# Altium footprint library Resistor.PcbLib: 27 footprints (part 2 of 2)
Each footprint in its own frame and in the unit in brackets; x right, y up, seen from the top. Pads: shape width x height; smd on the part's side, far side on the other; paste and mask are expansions set on the pad; w line width, h text height; cw(c..) or ccw(c..) is an arc to the next point about the centre after c.
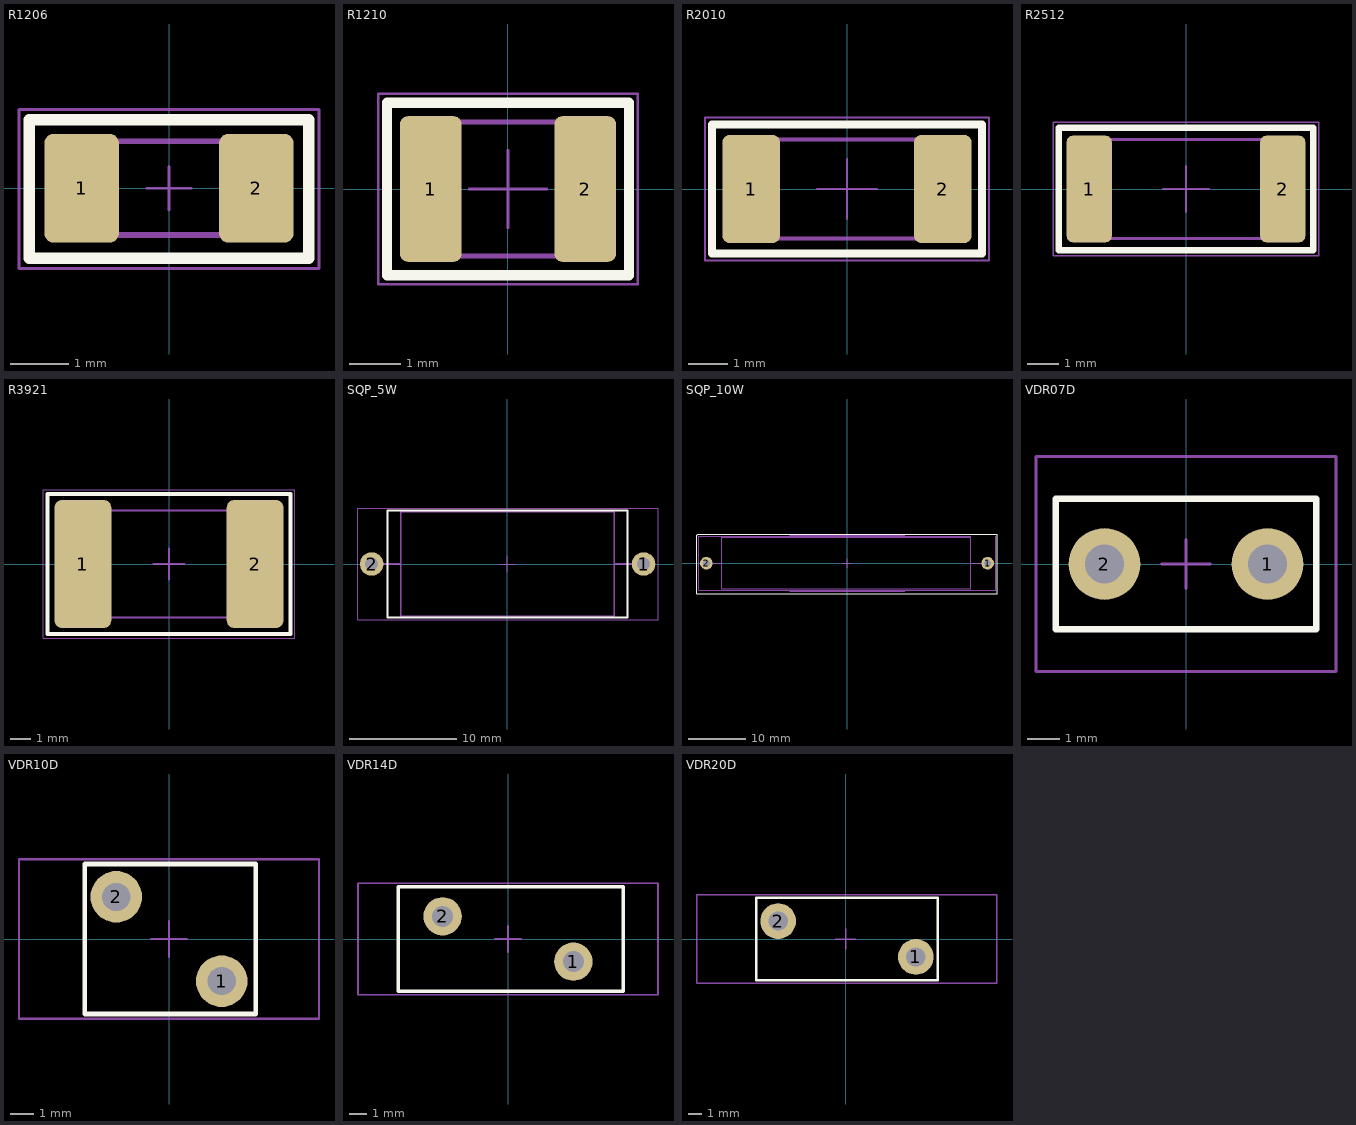
[diagram p1: the footprints below, top view; thin cyan lines are the x and y axes]

## R1206 [mm]
height 0.55
pads (2):
  rrect25% 1.28x1.87 smd: 1(-1.5,0) 2(1.5,0)
Top Overlay:
  lines w0.2: -2.4,-1.2 2.4,-1.2 2.4,1.175 -2.4,1.175 -2.4,-1.2
Mechanical 13:
  lines w0.1: -1.603,-0.8 1.597,-0.8 1.597,0.806 -1.603,0.804 -1.603,-0.8
Mechanical 15:
  lines w0.05: -0.375,0 0.375,0 ; 0,-0.375 0,0.375 ; -2.575,-1.375 -2.575,1.35 2.575,1.35 2.575,-1.375 -2.575,-1.375
3D body "User Library-res1206-1.step": height 0.55, standoff 0, extent -1.6,-0.8 1.6,0.8

## R1210 [mm] "1210 (3225 Metric), 3.10mm L x 2.60mm W"
height 0.6
pads (2):
  rrect25% 1.2x2.83 smd: 1(-1.5,0) 2(1.5,0)
Top Overlay:
  lines w0.2: -2.35,-1.675 2.35,-1.675 2.35,1.675 -2.35,1.675 -2.35,-1.675
Mechanical 13:
  lines w0.1: -1.55,-1.3 -1.55,1.3 1.55,1.3 1.55,-1.3 -1.55,-1.3
Mechanical 15:
  lines w0.05: -0.75,0 0.75,0 ; 0,-0.75 0,0.75 ; -2.525,-1.85 2.525,-1.85 2.525,1.85 -2.525,1.85 -2.525,-1.85
3D body "User Library-R1210.step": height 0.47, standoff 0, extent -1.55,-1.301 1.55,1.301

## R2010 [mm] "0.197\" L x 0.098\" W (5.00mm x 2.50mm)"
height 0.65
pads (2):
  rrect25% 1.45x2.73 smd: 1(-2.415,0) 2(2.415,0)
Top Overlay:
  lines w0.2: -3.4,-1.625 -3.4,1.625 3.4,1.625 3.4,-1.625 -3.4,-1.625
Mechanical 13:
  lines w0.1: -2.5,-1.25 2.5,-1.25 2.5,1.25 -2.5,1.25 -2.5,-1.25
Mechanical 15:
  lines w0.05: -0.75,0 0.75,0 ; 0,-0.75 0,0.75 ; -3.575,-1.8 3.575,-1.8 3.575,1.8 -3.575,1.8 -3.575,-1.8
3D body "User Library-R_2010.step": height 0.6, standoff 0, extent -2.5,-1.25 2.5,1.25

## R2512 [mm]
pads (2):
  rrect25% 1.45x3.43 smd: 1(-3.115,0) 2(3.115,0)
Top Overlay:
  lines w0.2: -4.1,-1.975 -4.1,1.975 4.1,1.975 4.1,-1.975 -4.1,-1.975
Mechanical 13:
  lines w0.1: -3.35,-1.6 3.35,-1.6 3.35,1.6 -3.35,1.6 -3.35,-1.6
Mechanical 15:
  lines w0.05: -0.75,0 0.75,0 ; 0,-0.75 0,0.75 ; -4.275,-2.15 -4.275,2.15 4.275,2.15 4.275,-2.15 -4.275,-2.15
3D body "User Library-R2512-1.step": height 0.55, standoff 0, extent -3.35,-1.6 3.35,1.6

## R3921 [mm]
pads (2):
  rrect25% 2.75x6.2 smd: 1(-4.175,0) 2(4.175,0)
Top Overlay:
  lines w0.2: -5.9,-3.4 -5.9,3.4 5.9,3.4 5.9,-3.4 -5.9,-3.4
Mechanical 9:
  text ".Designator" at -5.7,4.5 h3.5
Mechanical 10:
  text ".Comment" at -3.2,-5 h2
Mechanical 11:
  lines w0.1: -4.5,-2.6 4.5,-2.6 4.5,2.6 -4.5,2.6 -4.5,-2.6
Mechanical 15:
  lines w0.05: -6.1,-3.6 6.1,-3.6 6.1,3.6 -6.1,3.6 -6.1,-3.6
  lines w0.1: -0.75,0 0.75,0 ; 0,-0.75 0,0.75
3D body "User Library-WSL3921.step": height 0.83, standoff 0, extent -5,-2.6 5,2.6

## SQP_5W [mm]
pads (2):
  round 2.2 hole 1.2: 1(12.75,0)
  round 2.2 hole 1.2 mask+0.102: 2(-12.725,0)
Top Overlay:
  lines w0.2: -11.25,-5.025 -11.25,5.025 11.25,5.025 11.25,-5.025 -11.25,-5.025
Mechanical 9:
  text ".Designator" at -4.6,6.3 h3.5
Mechanical 10:
  text ".Comment" at -3.3,-6.9 h2
Mechanical 11:
  lines w0.15: -12.7,0 -10,0 ; 10,0 12.7,0 ; -10,-4.9 10,-4.9 10,4.9 -10,4.9 -10,-4.9
Mechanical 15:
  lines w0.1: -0.75,0 0.75,0 ; 0,-0.75 0,0.75 ; -14,-5.2 -14,3 -14,5.2 14.1,5.2 14.1,-5.2 -14,-5.2
3D body "User Library-SQP-5W.step": height 9.21, standoff -2.5, extent -13.2,-4.85 13.2,4.85

## SQP_10W [mm]
pads (2):
  round 2.2 hole 1.2: 1(24.475,0)
  round 2.2 hole 1.2 mask+0.102: 2(-24.5,0)
Top Overlay:
  lines w0.2: -26.125,-5.3 21.675,-5.3 26.1,-5.3 26.1,5.025 -26,5.025 -26.125,4.9 -26.125,-5.3
Mechanical 9:
  text ".Designator" at -4.6,6.3 h3.5
Mechanical 10:
  text ".Comment" at -3.3,-6.9 h2
Mechanical 11:
  lines w0.15: -24.525,0 -21.825,0 ; -10,-4.9 10,-4.9 ; -10,4.9 10,4.9 ; 21.5,0 24.2,0 ; -21.825,-4.475 -21.825,4.5 21.5,4.5 21.5,-4.475 -21.825,-4.475
Mechanical 15:
  lines w0.1: -0.75,0 0.75,0 ; 0,-0.75 0,0.75 ; 21.5,4.675 -25.85,4.675 -25.85,-4.7 -23.3,-4.7 25.9,-4.7 25.9,4.7
3D body "User Library-SQP10AJB-10R.STEP": height 10.55, standoff -4.04, extent -24.9,-4.5 24.9,4.5

## VDR07D [mm]
pads (2):
  round 2.2 hole 1.2: 1(2.5,0)
  round 2.2 hole 1.2 mask+0.102: 2(-2.5,0)
Top Overlay:
  lines w0.2: -4,-2 4,-2 4,2 -4,2 -4,-2
Mechanical 9:
  text ".Designator" at -6.3,4.1 h3.5
Mechanical 10:
  text ".Comment" at -3.2,-4.8 h2
Mechanical 15:
  lines w0.1: -0.75,0 0.75,0 ; 0,-0.75 0,0.75 ; -4.6,-3.3 4.6,-3.3 4.6,3.3 -4.6,3.3 -4.6,0.7 -4.6,-3.3
3D body "User Library-vdrs07bke.step": height 13, standoff -3, extent -4.5,-3.25 4.5,3.25

## VDR10D [mm]
pads (2):
  round 2.2 hole 1.2: 1(2.25,-1.8)
  round 2.2 hole 1.2 mask+0.102: 2(-2.25,1.8)
Top Overlay:
  lines w0.2: -3.6,-3.2 3.7,-3.2 3.7,3.2 -3.6,3.2 -3.6,-3.2
Mechanical 9:
  text ".Designator" at -6.3,4.1 h3.5
Mechanical 10:
  text ".Comment" at -3.2,-4.8 h2
Mechanical 15:
  lines w0.1: -0.75,0 0.75,0 ; 0,-0.75 0,0.75 ; -6.4,-3.4 6.4,-3.4 6.4,3.4 -6.4,3.4 -6.4,-3.4
3D body "User Library-Varistor 10mm.step": height 18.25, standoff -0.75, extent -6.25,-2.8 6.25,2.8

## VDR14D [mm]
pads (2):
  round 2.2 hole 1.2: 1(3.75,-1.3)
  round 2.2 hole 1.2 mask+0.102: 2(-3.75,1.3)
Top Overlay:
  lines w0.2: -6.3,-3 6.6,-3 6.6,3 -6.3,3 -6.3,-3
Mechanical 9:
  text ".Designator" at -6.3,4.1 h3.5
Mechanical 10:
  text ".Comment" at -3.2,-4.8 h2
Mechanical 15:
  lines w0.1: -0.75,0 0.75,0 ; 0,-0.75 0,0.75 ; -8.6,-3.2 -8.6,3.2 8.6,3.2 8.6,-3.2 -8.6,-3.2
3D body "User Library-Varistor 14mm.step": height 20.5, standoff -2.5, extent -8.5,-2.8 8.5,2.8

## VDR20D [mm]
pads (2):
  round 2.6 hole 1.4: 1(5.1,-1.3)
  round 2.6 hole 1.4 mask+0.102: 2(-4.9,1.3)
Top Overlay:
  lines w0.2: -6.5,-3 -6.5,3 6.7,3 6.7,-3 -6.5,-3
Mechanical 9:
  text ".Designator" at -6.3,4.1 h3.5
Mechanical 10:
  text ".Comment" at -3.2,-4.8 h2
Mechanical 15:
  lines w0.1: -0.75,0 0.75,0 ; 0,-0.75 0,0.75 ; -10.8,-3.2 -10.8,-0.3 -10.8,3.2 11,3.2 11,-3.2 -10.8,-3.2
3D body "User Library-Varistor_20mm.STEP": height 26.3, standoff -1.19, extent -10.65,-2.9 10.85,2.898